# Altium integrated library TI Power Management Power Over Ethernet.IntLib: 76 symbols (part 6 of 9)
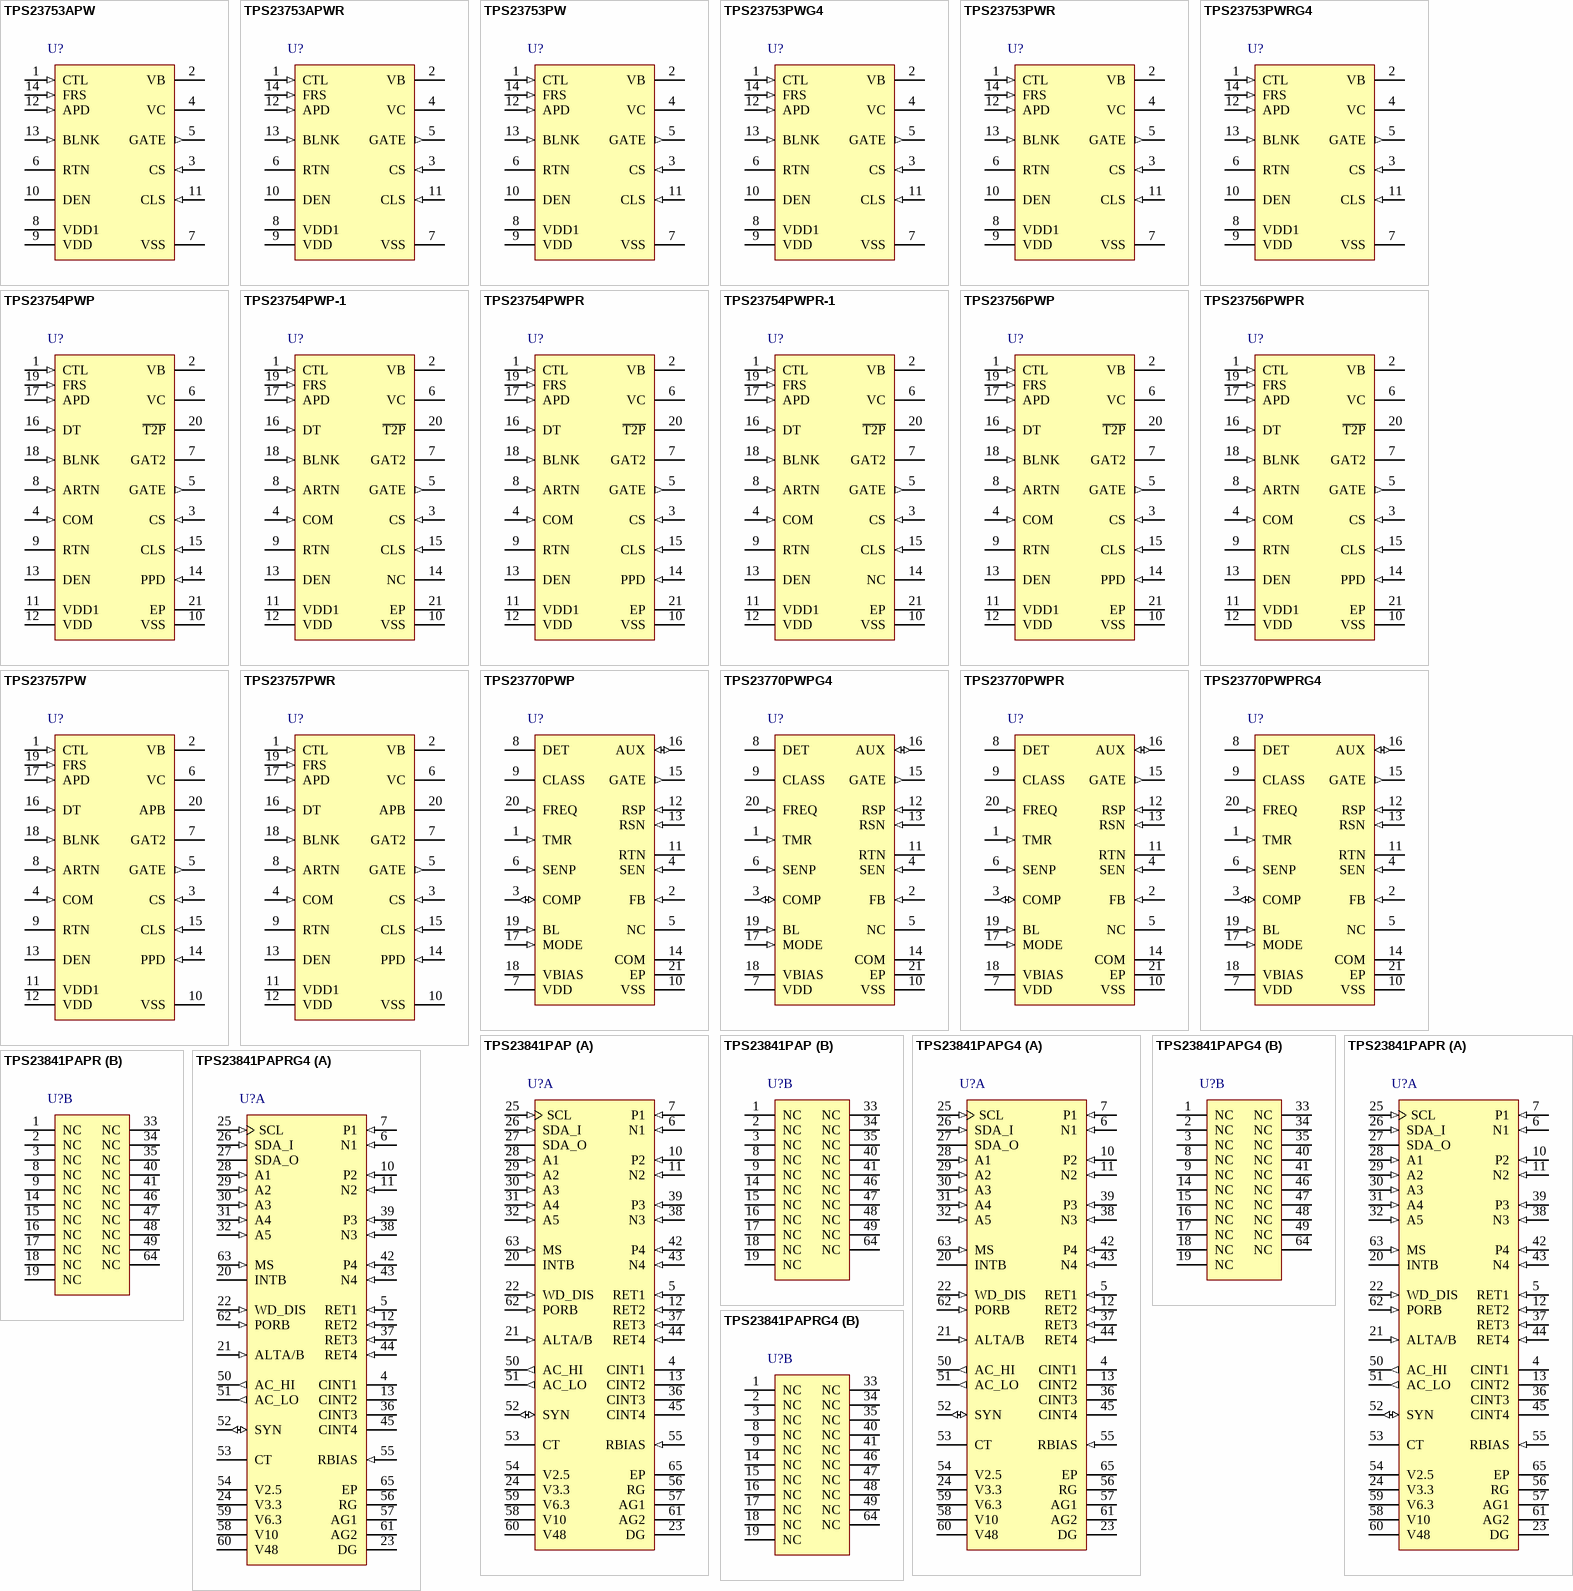
[diagram p8: symbols TPS23753APW to TPS23841PAPRG4]

## TPS23756PWPR
designator U?
High Power / High Efficiency PoE Interface and DC / DC Controller, -40 to 125 degC, 20-pin SOP (PW20), Green (RoHS & no Sb/Br); Manufacturer: Texas Instruments; PartNumber: TPS23756PWPR; Auxiliary Power Rails Supported: 12V-57V; Auxiliary/Local Power Support: Programmable; Driven/Active Clamp (Second Gate Drive): Yes; Duty Cycle(%): 78; Fault Response: Auto Retry; PD Power Level: 25W; PoE Current Limit(Min)(mA): 850; PoE I/F & DC DC Control: TRUE; PoE Inrush Limit(Typ)(mA): 140; PoE Standards Supported: 802.3at type1, 2; rDS(on) per FET(Typ)(mOhms): 430; SubFamily: Powered Device; Switching Frequency: Synchronizable and Programmable; UVLO: Unified; DatasheetVersion: SLVS885F; PackageVersion: 4073225-4/1; PackageReference: PWP20-3610X2009TP; PackageDescription: 20-Pin PowerPAD Plastic Small Outline, Body 6.5 x 4.4 mm,0.65 mm Pitch; Supplier 1: Digi-Key; Supplier Part Number 1: TPS23756PWPR-ND; Supplier 2: Newark; Supplier Part Number 2: 25R0092; Supplier 3: Mouser; Supplier Part Number 3: 595-TPS23756PWPR; Eco-Plan: Green (RoHS & no Sb/Br); Mounting Technology: Surface Mount; Code_JEDEC: MO-153; ComponentLink1Description: Manufacturer URL; ComponentLink1URL: http://www.ti.com/; ComponentLink2Description: Datasheet; ComponentLink2URL: http://www.ti.com/general/docs/lit/getliterature.tsp?genericPartNumber=TPS23756&fileType=pdf; ComponentLink3Description: Package Specification; ComponentLink3URL: http://www.ti.com/litv/pdf/mhts001g
footprint TI-PWP20-3610X2009TP_N (SOP, 20-Leads, Body 6.5x4.4mm, Pitch 0.65mm, Thermal Pad 3.605x2.005mm, IPC Medium Density)
footprint TI-PWP20-3610X2009TP_L (SOP, 20-Leads, Body 6.5x4.4mm, Pitch 0.65mm, Thermal Pad 3.605x2.005mm, IPC High Density)
footprint TI-PWP20-3610X2009TP_M (SOP, 20-Leads, Body 6.5x4.4mm, Pitch 0.65mm, Thermal Pad 3.605x2.005mm, IPC Low Density)
pins: 1 CTL (in) "The control loop input to the PWM (pulse width modulator), typically driven by output regulation feedback (e.g. optocoupler). Use VB as a pullup for CTL.", 2 VB (power) "5.1 V bias rail for dc/dc control circuits and the feedback optocoupler. Typically bypass with a 0.1 uF to ARTN.", 3 CS (in) "DC/DC converter switching MOSFET current sense input.", 4 COM (in) "Gate driver return, connect to ARTN and RTN.", 5 GATE (out) "Gate drive output for the main dc/dc converter switching MOSFET.", 6 VC (power) "DC/DC converter bias voltage. Connect a 0.47 uF (minimum) ceramic capacitor to ARTN at the pin, and a larger capacitor to power startup.", 7 GAT2 (hiz) "Gate drive output for a second dc/dc converter switching MOSFET", 8 ARTN (in) "ARTN is the dc/dc converter analog return. Tie to RTN and COM on the circuit board.", 9 RTN "RTN is the output of the PoE hotswap MOSFET.", 10 VSS (power) "Connect to the negative power rail derived from the PoE source.", 11 VDD1 (power) "Source of dc/dc converter startup current. Connect to VDD for many applications.", 12 VDD (power) "Connect to the positive PoE input power rail. VDD powers the PoE interface circuits. Bypass with a 0.1 uF capacitor and protect with a TVS.", 13 DEN "Connect a 24.9 k ohm resistor from DEN to VDD to provide the PoE detection signature. Pulling this pin to VSS during powered operation causes the internal hotswap MOSFET to turn off.", 14 PPD (in) "Raising VPPD-VSS above 1.55 V enables the hotswap MOSFET and activates T2P. Connecting PPD to VDD enables classification when APD is active. Tie PPD to VSS or float when not used.", 15 CLS (in) "Connect a resistor from CLS to VSS to program classification current. 2.5 V is applied to the program resistor during classification to set class current.", 16 DT (in) "Connect a resistor from DT to ARTN to set the GATE to GAT2 dead time. Tie DT to VB to disable GAT2 operation.", 17 APD (in) "Raising VAPD-VARTN above 1.5 V disables the internal hotswap switch, turns class off, and forces T2P active. This forces power to come from a external VDD1-RTN adapter. Tie APD to ARTN when not used.", 18 BLNK (in) "Connect to ARTN to utilize the internally set current-sense blanking period, or connect a resistor from BLNK to ARTN to program a more accurate period.", 19 FRS (in) "Connect a resistor from FRS to ARTN to program the converter switching frequency. FRS may be used to synchronize the converter to an external timing source.", 20 ~{T2P} (oc) "Active low output that indicates a PSE has performed the IEEE 802.3at type 2 hardware classification, PPD is active, or APD is active.", 21 EP (power) "Connect to VSS."

## TPS23757PW
designator U?
High Efficiency PoE Interface and DC / DC Controller, -40 to 125 degC, 20-pin SOP (PW20), Green (RoHS & no Sb/Br); Manufacturer: Texas Instruments; PartNumber: TPS23757PW; Auxiliary Power Rails Supported: 12V-57V; Auxiliary/Local Power Support: Programmable; Driven/Active Clamp (Second Gate Drive): Yes; Duty Cycle(%): 78; Fault Response: Auto Retry; PD Power Level: 13W; PoE Current Limit(Min)(mA): 400; PoE I/F & DC DC Control: TRUE; PoE Inrush Limit(Typ)(mA): 140; PoE Standards Supported: 802.3at type1; rDS(on) per FET(Typ)(mOhms): 430; SubFamily: Powered Device; Switching Frequency: Synchronizable and Programmable; UVLO: Unified; DatasheetVersion: SLVS948C; PackageVersion: 4040064-5/G; PackageReference: PW20; PackageDescription: 20-Pin Plastic Small Outline, Body 6.5 x 4.4 mm, 0.65 mm Pitch; Supplier 1: Digi-Key; Supplier Part Number 1: 296-24949-5-ND; Supplier 2: Farnell; Supplier Part Number 2: 1762993; Supplier 3: Newark; Supplier Part Number 3: 34R9176; Supplier 4: Newark; Supplier Part Number 4: 25R2325; Supplier 5: Mouser; Supplier Part Number 5: 595-TPS23757PW; Eco-Plan: Green (RoHS & no Sb/Br); Mounting Technology: Surface Mount; Code_JEDEC: MO-153; ComponentLink1Description: Manufacturer URL; ComponentLink1URL: http://www.ti.com/; ComponentLink2Description: Datasheet; ComponentLink2URL: http://www.ti.com/general/docs/lit/getliterature.tsp?genericPartNumber=TPS23757&fileType=pdf; ComponentLink3Description: Package Specification; ComponentLink3URL: http://www.ti.com.cn/cn/lit/ml/mpds362/mpds362.pdf
footprint TI-PW20_N (SOP, 20-Leads, Body 6.5x4.4mm, Pitch 0.65mm, IPC Medium Density)
footprint TI-PW20_L (SOP, 20-Leads, Body 6.5x4.4mm, Pitch 0.65mm, IPC High Density)
footprint TI-PW20_M (SOP, 20-Leads, Body 6.5x4.4mm, Pitch 0.65mm, IPC Low Density)
pins: 1 CTL (in) "The control loop input to the PWM (pulse width modulator), typically driven by output regulation feedback (e.g. optocoupler). Use VB as a pullup for CTL.", 2 VB (power) "5.1 V bias rail for dc/dc control circuits and the feedback optocoupler. Typically bypass with a 0.1 uF to ARTN.", 3 CS (in) "DC/DC converter switching MOSFET current sense input.", 4 COM (in) "Gate driver return, connect to ARTN, and RTN for most applications.", 5 GATE (out) "Gate drive output for the main dc/dc converter switching MOSFET.", 6 VC (power) "DC/DC converter bias voltage. Connect a 0.47 uF (minimum) ceramic capacitor to ARTN at the pin, and a larger capacitor to power startup.", 7 GAT2 (hiz) "Gate drive output for a second dc/dc converter switching MOSFET.", 8 ARTN (in) "ARTN is the dc/dc converter analog return. Tie to COM, and RTN for most applications.", 9 RTN "RTN is the output of the PoE hotswap MOSFET.", 10 VSS (power) "Connect to the negative power rail derived from the PoE source.", 11 VDD1 (power) "Source of dc/dc converter startup current. Connect to VDD for many applications.", 12 VDD (power) "Connect to the positive PoE input power rail. VDD powers the PoE interface circuits. Bypass with a 0.1 uF Connect to the positive PoE input power rail. VDD powers the PoE interface circuits. Bypass with a 0.1 µF capacitor (See Datasheet)", 13 DEN "Connect a 24.9 k ohm resistor from DEN to VDD to provide the PoE detection signature. Pulling this pin to VSS Connect a 24.9 k ohm resistor from DEN to VDD to provide the PoE detection signature. Pulling this pin to VSS (See Datasheet)", 14 PPD (in) "Raising VPPD - VVSS above 1.55 V enables the hotswap MOSFET and activates APb. Connecting PPD to VDD enables classification when APD is active. Tie PPD to VSS or float when not used.", 15 CLS (in) "Connect a resistor from CLS to VSS to program classification current per Table 1.", 16 DT (in) "Connect a resistor from DT to ARTN to set the GATE to GAT2 dead time. Tie DT to VB to disable GAT2 operation.", 17 APD (in) "Raising VAPD-VARTN above 1.5 V disables the internal hotswap MOSFET, turns class off, and forces APb active. This forces power to come from a external VDD1-VRTN adapter. Tie APD to ARTN when not used.", 18 BLNK (in) "Connect to ARTN to utilize the internally set current-sense blanking period, or connect a resistor from BLNK to ARTN to program a more accurate period.", 19 FRS (in) "Connect a resistor from FRS to ARTN to program the converter switching frequency. FRS may be used to synchronize the converter to an external timing source.", 20 APB (oc) "Active low output that indicates PPD (first level) or APD are active."

## TPS23757PWR
designator U?
High Efficiency PoE Interface and DC / DC Controller, -40 to 125 degC, 20-pin SOP (PW20), Green (RoHS & no Sb/Br); Manufacturer: Texas Instruments; PartNumber: TPS23757PWR; Auxiliary Power Rails Supported: 12V-57V; Auxiliary/Local Power Support: Programmable; Driven/Active Clamp (Second Gate Drive): Yes; Duty Cycle(%): 78; Fault Response: Auto Retry; PD Power Level: 13W; PoE Current Limit(Min)(mA): 400; PoE I/F & DC DC Control: TRUE; PoE Inrush Limit(Typ)(mA): 140; PoE Standards Supported: 802.3at type1; rDS(on) per FET(Typ)(mOhms): 430; SubFamily: Powered Device; Switching Frequency: Synchronizable and Programmable; UVLO: Unified; DatasheetVersion: SLVS948C; PackageVersion: 4040064-5/G; PackageReference: PW20; PackageDescription: 20-Pin Plastic Small Outline, Body 6.5 x 4.4 mm, 0.65 mm Pitch; Supplier 1: Digi-Key; Supplier Part Number 1: TPS23757PWR-ND; Supplier 2: Newark; Supplier Part Number 2: 50R8106; Supplier 3: Mouser; Supplier Part Number 3: 595-TPS23757PWR; Eco-Plan: Green (RoHS & no Sb/Br); Mounting Technology: Surface Mount; Code_JEDEC: MO-153; ComponentLink1Description: Manufacturer URL; ComponentLink1URL: http://www.ti.com/; ComponentLink2Description: Datasheet; ComponentLink2URL: http://www.ti.com/general/docs/lit/getliterature.tsp?genericPartNumber=TPS23757&fileType=pdf; ComponentLink3Description: Package Specification; ComponentLink3URL: http://www.ti.com.cn/cn/lit/ml/mpds362/mpds362.pdf
footprint TI-PW20_N (SOP, 20-Leads, Body 6.5x4.4mm, Pitch 0.65mm, IPC Medium Density)
footprint TI-PW20_L (SOP, 20-Leads, Body 6.5x4.4mm, Pitch 0.65mm, IPC High Density)
footprint TI-PW20_M (SOP, 20-Leads, Body 6.5x4.4mm, Pitch 0.65mm, IPC Low Density)
pins: 1 CTL (in) "The control loop input to the PWM (pulse width modulator), typically driven by output regulation feedback (e.g. optocoupler). Use VB as a pullup for CTL.", 2 VB (power) "5.1 V bias rail for dc/dc control circuits and the feedback optocoupler. Typically bypass with a 0.1 uF to ARTN.", 3 CS (in) "DC/DC converter switching MOSFET current sense input.", 4 COM (in) "Gate driver return, connect to ARTN, and RTN for most applications.", 5 GATE (out) "Gate drive output for the main dc/dc converter switching MOSFET.", 6 VC (power) "DC/DC converter bias voltage. Connect a 0.47 uF (minimum) ceramic capacitor to ARTN at the pin, and a larger capacitor to power startup.", 7 GAT2 (hiz) "Gate drive output for a second dc/dc converter switching MOSFET.", 8 ARTN (in) "ARTN is the dc/dc converter analog return. Tie to COM, and RTN for most applications.", 9 RTN "RTN is the output of the PoE hotswap MOSFET.", 10 VSS (power) "Connect to the negative power rail derived from the PoE source.", 11 VDD1 (power) "Source of dc/dc converter startup current. Connect to VDD for many applications.", 12 VDD (power) "Connect to the positive PoE input power rail. VDD powers the PoE interface circuits. Bypass with a 0.1 uF Connect to the positive PoE input power rail. VDD powers the PoE interface circuits. Bypass with a 0.1 µF capacitor (See Datasheet)", 13 DEN "Connect a 24.9 k ohm resistor from DEN to VDD to provide the PoE detection signature. Pulling this pin to VSS Connect a 24.9 k ohm resistor from DEN to VDD to provide the PoE detection signature. Pulling this pin to VSS (See Datasheet)", 14 PPD (in) "Raising VPPD - VVSS above 1.55 V enables the hotswap MOSFET and activates APb. Connecting PPD to VDD enables classification when APD is active. Tie PPD to VSS or float when not used.", 15 CLS (in) "Connect a resistor from CLS to VSS to program classification current per Table 1.", 16 DT (in) "Connect a resistor from DT to ARTN to set the GATE to GAT2 dead time. Tie DT to VB to disable GAT2 operation.", 17 APD (in) "Raising VAPD-VARTN above 1.5 V disables the internal hotswap MOSFET, turns class off, and forces APb active. This forces power to come from a external VDD1-VRTN adapter. Tie APD to ARTN when not used.", 18 BLNK (in) "Connect to ARTN to utilize the internally set current-sense blanking period, or connect a resistor from BLNK to ARTN to program a more accurate period.", 19 FRS (in) "Connect a resistor from FRS to ARTN to program the converter switching frequency. FRS may be used to synchronize the converter to an external timing source.", 20 APB (oc) "Active low output that indicates PPD (first level) or APD are active."

## TPS23770PWP
designator U?
IEEE 802.3af PD Controller with Integrated DC / DC, -40 to 85 degC, 20-pin SOP (PWP20), Green (RoHS & no Sb/Br); Manufacturer: Texas Instruments; PartNumber: TPS23770PWP; Auxiliary Power Rails Supported: 24V-57V; Auxiliary/Local Power Support: External Circuit; Duty Cycle(%): 50; Error Amplifier: Yes; Fault Response: Auto Retry; PD Power Level: 13W; PoE Current Limit(Min)(mA): 405; PoE I/F & DC DC Control: TRUE; PoE Inrush Limit(Typ)(mA): 140; PoE Standards Supported: 802.3at type1; rDS(on) per FET(Typ)(mOhms): 600; SubFamily: Powered Device; Switching Frequency: Programmable; UVLO: Unified; DatasheetVersion: SLVS590B; PackageVersion: 4073225-4/1; PackageReference: PWP20-3610X2009TP; PackageDescription: 20-Pin PowerPAD Plastic Small Outline, Body 6.5 x 4.4 mm,0.65 mm Pitch; Supplier 1: Digi-Key; Supplier Part Number 1: TPS23770PWP-ND; Supplier 2: Farnell; Supplier Part Number 2: 1645406; Supplier 3: Newark; Supplier Part Number 3: 09P7130; Supplier 4: Newark; Supplier Part Number 4: 58K6910; Supplier 5: Mouser; Supplier Part Number 5: 595-TPS23770PWP; Eco-Plan: Green (RoHS & no Sb/Br); Mounting Technology: Surface Mount; Code_JEDEC: MO-153; ComponentLink1Description: Manufacturer URL; ComponentLink1URL: http://www.ti.com/; ComponentLink2Description: Datasheet; ComponentLink2URL: http://www.ti.com/general/docs/lit/getliterature.tsp?genericPartNumber=TPS23770&fileType=pdf; ComponentLink3Description: Package Specification; ComponentLink3URL: http://www.ti.com/litv/pdf/mhts001g
footprint TI-PWP20-3610X2009TP_N (SOP, 20-Leads, Body 6.5x4.4mm, Pitch 0.65mm, Thermal Pad 3.605x2.005mm, IPC Medium Density)
footprint TI-PWP20-3610X2009TP_L (SOP, 20-Leads, Body 6.5x4.4mm, Pitch 0.65mm, Thermal Pad 3.605x2.005mm, IPC High Density)
footprint TI-PWP20-3610X2009TP_M (SOP, 20-Leads, Body 6.5x4.4mm, Pitch 0.65mm, Thermal Pad 3.605x2.005mm, IPC Low Density)
pins: 1 TMR (in) "Multifunction pin, serves as a converter soft start and a hiccup timer. A capacitor to RTN determines the softstart and hiccup timing.", 2 FB (in) "Converter error amplifier inverting input. Tie to RTN when not used.", 3 COMP (io) "Converter error amplifier output and PWM block input. COMP is used for loop compensation or PWM control with an external error amplifier and opto-isolator.", 4 SEN (in) "Voltage-level translator's sense input and enable; connect to RTN to disable. SEN is regulated to 1.5 V below SENP by the control loop when the translator is used. Typically used in a low-side switch buck converter.", 5 NC "No connect. There are no internal connections.", 6 SENP (in) "Voltage-level translator's positive reference voltage (sense positive) used in conjunction with SEN. Tie to the regulated voltage positive rail when the translator is used, and VDD otherwise.", 7 VDD (power) "Positive supply input.", 8 DET "PoE detection pin; a 24.9 k ohm resistor to VDD establishes a valid signature. It is pulled to VSS during detection.", 9 CLASS "Classification pin for PoE. A resistor to VSS sets the PoE device class. This pin is driven to 10 V during classification.", 10 VSS (power) "Negative supply input from the PoE feed (after required ORing bridges).", 11 RTN "The switched PoE negative output. RTN is the converter’s negative input rail. COM and RSN should be tied to RTN.", 12 RSP (in) "Connect to the converter switching MOSFET current-sense resistor (current Sense Resistor Positive end).", 13 RSN (in) "Converter switching MOSFET current-sense reference (current Sense Resistor Negative end) and quiet analog return (ground). Connect to RTN.", 14 COM (power) "Converter MOSFET gate driver circuit return. Connect to RTN.", 15 GATE (out) "Converter switching MOSFET gate drive.", 16 AUX (io) "Converter gate driver supply; outputs 10 V and can accept inputs up to 16 V. Connect a bypass capacitor to COM.", 17 MODE (in) "Connect to VBIAS to disable the error amplifier, otherwise to RTN.", 18 VBIAS (power) "Converter internal 5 V bias supply output, also used to bias external optocoupler. A bypass capacitor to RTN is required.", 19 BL (in) "Converter current sense blanking selector. Leave floating for minimum blanking, tie BL to RTN for a short period, and to VBIAS for a long period.", 20 FREQ (in) "Connect a resistor to RTN to program the switching frequency.", 21 EP (power) "Internally connected to VSS; used to heatsink the part to the circuit board traces. Must be connected to the VSS pin."

## TPS23770PWPG4
designator U?
IEEE 802.3af PD Controller with Integrated DC / DC, -40 to 85 degC, 20-pin SOP (PWP20), Green (RoHS & no Sb/Br); Manufacturer: Texas Instruments; PartNumber: TPS23770PWPG4; Auxiliary Power Rails Supported: 24V-57V; Auxiliary/Local Power Support: External Circuit; Duty Cycle(%): 50; Error Amplifier: Yes; Fault Response: Auto Retry; PD Power Level: 13W; PoE Current Limit(Min)(mA): 405; PoE I/F & DC DC Control: TRUE; PoE Inrush Limit(Typ)(mA): 140; PoE Standards Supported: 802.3at type1; rDS(on) per FET(Typ)(mOhms): 600; SubFamily: Powered Device; Switching Frequency: Programmable; UVLO: Unified; DatasheetVersion: SLVS590B; PackageVersion: 4073225-4/1; PackageReference: PWP20-3610X2009TP; PackageDescription: 20-Pin PowerPAD Plastic Small Outline, Body 6.5 x 4.4 mm,0.65 mm Pitch; Supplier 1: Digi-Key; Supplier Part Number 1: TPS23770PWPG4-ND; Supplier 2: Mouser; Supplier Part Number 2: 595-TPS23770PWPG4; Eco-Plan: Green (RoHS & no Sb/Br); Mounting Technology: Surface Mount; Code_JEDEC: MO-153; ComponentLink1Description: Manufacturer URL; ComponentLink1URL: http://www.ti.com/; ComponentLink2Description: Datasheet; ComponentLink2URL: http://www.ti.com/general/docs/lit/getliterature.tsp?genericPartNumber=TPS23770&fileType=pdf; ComponentLink3Description: Package Specification; ComponentLink3URL: http://www.ti.com/litv/pdf/mhts001g
footprint TI-PWP20-3610X2009TP_N (SOP, 20-Leads, Body 6.5x4.4mm, Pitch 0.65mm, Thermal Pad 3.605x2.005mm, IPC Medium Density)
footprint TI-PWP20-3610X2009TP_L (SOP, 20-Leads, Body 6.5x4.4mm, Pitch 0.65mm, Thermal Pad 3.605x2.005mm, IPC High Density)
footprint TI-PWP20-3610X2009TP_M (SOP, 20-Leads, Body 6.5x4.4mm, Pitch 0.65mm, Thermal Pad 3.605x2.005mm, IPC Low Density)
pins: 1 TMR (in) "Multifunction pin, serves as a converter soft start and a hiccup timer. A capacitor to RTN determines the softstart and hiccup timing.", 2 FB (in) "Converter error amplifier inverting input. Tie to RTN when not used.", 3 COMP (io) "Converter error amplifier output and PWM block input. COMP is used for loop compensation or PWM control with an external error amplifier and opto-isolator.", 4 SEN (in) "Voltage-level translator's sense input and enable; connect to RTN to disable. SEN is regulated to 1.5 V below SENP by the control loop when the translator is used. Typically used in a low-side switch buck converter.", 5 NC "No connect. There are no internal connections.", 6 SENP (in) "Voltage-level translator's positive reference voltage (sense positive) used in conjunction with SEN. Tie to the regulated voltage positive rail when the translator is used, and VDD otherwise.", 7 VDD (power) "Positive supply input.", 8 DET "PoE detection pin; a 24.9 k ohm resistor to VDD establishes a valid signature. It is pulled to VSS during detection.", 9 CLASS "Classification pin for PoE. A resistor to VSS sets the PoE device class. This pin is driven to 10 V during classification.", 10 VSS (power) "Negative supply input from the PoE feed (after required ORing bridges).", 11 RTN "The switched PoE negative output. RTN is the converter’s negative input rail. COM and RSN should be tied to RTN.", 12 RSP (in) "Connect to the converter switching MOSFET current-sense resistor (current Sense Resistor Positive end).", 13 RSN (in) "Converter switching MOSFET current-sense reference (current Sense Resistor Negative end) and quiet analog return (ground). Connect to RTN.", 14 COM (power) "Converter MOSFET gate driver circuit return. Connect to RTN.", 15 GATE (out) "Converter switching MOSFET gate drive.", 16 AUX (io) "Converter gate driver supply; outputs 10 V and can accept inputs up to 16 V. Connect a bypass capacitor to COM.", 17 MODE (in) "Connect to VBIAS to disable the error amplifier, otherwise to RTN.", 18 VBIAS (power) "Converter internal 5 V bias supply output, also used to bias external optocoupler. A bypass capacitor to RTN is required.", 19 BL (in) "Converter current sense blanking selector. Leave floating for minimum blanking, tie BL to RTN for a short period, and to VBIAS for a long period.", 20 FREQ (in) "Connect a resistor to RTN to program the switching frequency.", 21 EP (power) "Internally connected to VSS; used to heatsink the part to the circuit board traces. Must be connected to the VSS pin."

## TPS23770PWPR
designator U?
IEEE 802.3af PD Controller with Integrated DC / DC, -40 to 85 degC, 20-pin SOP (PWP20), Green (RoHS & no Sb/Br); Manufacturer: Texas Instruments; PartNumber: TPS23770PWPR; Auxiliary Power Rails Supported: 24V-57V; Auxiliary/Local Power Support: External Circuit; Duty Cycle(%): 50; Error Amplifier: Yes; Fault Response: Auto Retry; PD Power Level: 13W; PoE Current Limit(Min)(mA): 405; PoE I/F & DC DC Control: TRUE; PoE Inrush Limit(Typ)(mA): 140; PoE Standards Supported: 802.3at type1; rDS(on) per FET(Typ)(mOhms): 600; SubFamily: Powered Device; Switching Frequency: Programmable; UVLO: Unified; DatasheetVersion: SLVS590B; PackageVersion: 4073225-4/1; PackageReference: PWP20-3610X2009TP; PackageDescription: 20-Pin PowerPAD Plastic Small Outline, Body 6.5 x 4.4 mm,0.65 mm Pitch; Supplier 1: Digi-Key; Supplier Part Number 1: 296-21148-2-ND; Supplier 2: Digi-Key; Supplier Part Number 2: 296-21148-1-ND; Supplier 3: Digi-Key; Supplier Part Number 3: 296-21148-6-ND; Supplier 4: Mouser; Supplier Part Number 4: 595-TPS23770PWPR; Eco-Plan: Green (RoHS & no Sb/Br); Mounting Technology: Surface Mount; Code_JEDEC: MO-153; ComponentLink1Description: Manufacturer URL; ComponentLink1URL: http://www.ti.com/; ComponentLink2Description: Datasheet; ComponentLink2URL: http://www.ti.com/general/docs/lit/getliterature.tsp?genericPartNumber=TPS23770&fileType=pdf; ComponentLink3Description: Package Specification; ComponentLink3URL: http://www.ti.com/litv/pdf/mhts001g
footprint TI-PWP20-3610X2009TP_N (SOP, 20-Leads, Body 6.5x4.4mm, Pitch 0.65mm, Thermal Pad 3.605x2.005mm, IPC Medium Density)
footprint TI-PWP20-3610X2009TP_L (SOP, 20-Leads, Body 6.5x4.4mm, Pitch 0.65mm, Thermal Pad 3.605x2.005mm, IPC High Density)
footprint TI-PWP20-3610X2009TP_M (SOP, 20-Leads, Body 6.5x4.4mm, Pitch 0.65mm, Thermal Pad 3.605x2.005mm, IPC Low Density)
pins: 1 TMR (in) "Multifunction pin, serves as a converter soft start and a hiccup timer. A capacitor to RTN determines the softstart and hiccup timing.", 2 FB (in) "Converter error amplifier inverting input. Tie to RTN when not used.", 3 COMP (io) "Converter error amplifier output and PWM block input. COMP is used for loop compensation or PWM control with an external error amplifier and opto-isolator.", 4 SEN (in) "Voltage-level translator's sense input and enable; connect to RTN to disable. SEN is regulated to 1.5 V below SENP by the control loop when the translator is used. Typically used in a low-side switch buck converter.", 5 NC "No connect. There are no internal connections.", 6 SENP (in) "Voltage-level translator's positive reference voltage (sense positive) used in conjunction with SEN. Tie to the regulated voltage positive rail when the translator is used, and VDD otherwise.", 7 VDD (power) "Positive supply input.", 8 DET "PoE detection pin; a 24.9 k ohm resistor to VDD establishes a valid signature. It is pulled to VSS during detection.", 9 CLASS "Classification pin for PoE. A resistor to VSS sets the PoE device class. This pin is driven to 10 V during classification.", 10 VSS (power) "Negative supply input from the PoE feed (after required ORing bridges).", 11 RTN "The switched PoE negative output. RTN is the converter’s negative input rail. COM and RSN should be tied to RTN.", 12 RSP (in) "Connect to the converter switching MOSFET current-sense resistor (current Sense Resistor Positive end).", 13 RSN (in) "Converter switching MOSFET current-sense reference (current Sense Resistor Negative end) and quiet analog return (ground). Connect to RTN.", 14 COM (power) "Converter MOSFET gate driver circuit return. Connect to RTN.", 15 GATE (out) "Converter switching MOSFET gate drive.", 16 AUX (io) "Converter gate driver supply; outputs 10 V and can accept inputs up to 16 V. Connect a bypass capacitor to COM.", 17 MODE (in) "Connect to VBIAS to disable the error amplifier, otherwise to RTN.", 18 VBIAS (power) "Converter internal 5 V bias supply output, also used to bias external optocoupler. A bypass capacitor to RTN is required.", 19 BL (in) "Converter current sense blanking selector. Leave floating for minimum blanking, tie BL to RTN for a short period, and to VBIAS for a long period.", 20 FREQ (in) "Connect a resistor to RTN to program the switching frequency.", 21 EP (power) "Internally connected to VSS; used to heatsink the part to the circuit board traces. Must be connected to the VSS pin."

## TPS23770PWPRG4
designator U?
IEEE 802.3af PD Controller with Integrated DC / DC, -40 to 85 degC, 20-pin SOP (PWP20), Green (RoHS & no Sb/Br); Manufacturer: Texas Instruments; PartNumber: TPS23770PWPRG4; Auxiliary Power Rails Supported: 24V-57V; Auxiliary/Local Power Support: External Circuit; Duty Cycle(%): 50; Error Amplifier: Yes; Fault Response: Auto Retry; PD Power Level: 13W; PoE Current Limit(Min)(mA): 405; PoE I/F & DC DC Control: TRUE; PoE Inrush Limit(Typ)(mA): 140; PoE Standards Supported: 802.3at type1; rDS(on) per FET(Typ)(mOhms): 600; SubFamily: Powered Device; Switching Frequency: Programmable; UVLO: Unified; DatasheetVersion: SLVS590B; PackageVersion: 4073225-4/1; PackageReference: PWP20-3610X2009TP; PackageDescription: 20-Pin PowerPAD Plastic Small Outline, Body 6.5 x 4.4 mm,0.65 mm Pitch; Supplier 1: Digi-Key; Supplier Part Number 1: TPS23770PWPRG4-ND; Supplier 2: Newark; Supplier Part Number 2: 61K1882; Supplier 3: Mouser; Supplier Part Number 3: 595-TPS23770PWPRG4; Eco-Plan: Green (RoHS & no Sb/Br); Mounting Technology: Surface Mount; Code_JEDEC: MO-153; ComponentLink1Description: Manufacturer URL; ComponentLink1URL: http://www.ti.com/; ComponentLink2Description: Datasheet; ComponentLink2URL: http://www.ti.com/general/docs/lit/getliterature.tsp?genericPartNumber=TPS23770&fileType=pdf; ComponentLink3Description: Package Specification; ComponentLink3URL: http://www.ti.com/litv/pdf/mhts001g
footprint TI-PWP20-3610X2009TP_N (SOP, 20-Leads, Body 6.5x4.4mm, Pitch 0.65mm, Thermal Pad 3.605x2.005mm, IPC Medium Density)
footprint TI-PWP20-3610X2009TP_L (SOP, 20-Leads, Body 6.5x4.4mm, Pitch 0.65mm, Thermal Pad 3.605x2.005mm, IPC High Density)
footprint TI-PWP20-3610X2009TP_M (SOP, 20-Leads, Body 6.5x4.4mm, Pitch 0.65mm, Thermal Pad 3.605x2.005mm, IPC Low Density)
pins: 1 TMR (in) "Multifunction pin, serves as a converter soft start and a hiccup timer. A capacitor to RTN determines the softstart and hiccup timing.", 2 FB (in) "Converter error amplifier inverting input. Tie to RTN when not used.", 3 COMP (io) "Converter error amplifier output and PWM block input. COMP is used for loop compensation or PWM control with an external error amplifier and opto-isolator.", 4 SEN (in) "Voltage-level translator's sense input and enable; connect to RTN to disable. SEN is regulated to 1.5 V below SENP by the control loop when the translator is used. Typically used in a low-side switch buck converter.", 5 NC "No connect. There are no internal connections.", 6 SENP (in) "Voltage-level translator's positive reference voltage (sense positive) used in conjunction with SEN. Tie to the regulated voltage positive rail when the translator is used, and VDD otherwise.", 7 VDD (power) "Positive supply input.", 8 DET "PoE detection pin; a 24.9 k ohm resistor to VDD establishes a valid signature. It is pulled to VSS during detection.", 9 CLASS "Classification pin for PoE. A resistor to VSS sets the PoE device class. This pin is driven to 10 V during classification.", 10 VSS (power) "Negative supply input from the PoE feed (after required ORing bridges).", 11 RTN "The switched PoE negative output. RTN is the converter’s negative input rail. COM and RSN should be tied to RTN.", 12 RSP (in) "Connect to the converter switching MOSFET current-sense resistor (current Sense Resistor Positive end).", 13 RSN (in) "Converter switching MOSFET current-sense reference (current Sense Resistor Negative end) and quiet analog return (ground). Connect to RTN.", 14 COM (power) "Converter MOSFET gate driver circuit return. Connect to RTN.", 15 GATE (out) "Converter switching MOSFET gate drive.", 16 AUX (io) "Converter gate driver supply; outputs 10 V and can accept inputs up to 16 V. Connect a bypass capacitor to COM.", 17 MODE (in) "Connect to VBIAS to disable the error amplifier, otherwise to RTN.", 18 VBIAS (power) "Converter internal 5 V bias supply output, also used to bias external optocoupler. A bypass capacitor to RTN is required.", 19 BL (in) "Converter current sense blanking selector. Leave floating for minimum blanking, tie BL to RTN for a short period, and to VBIAS for a long period.", 20 FREQ (in) "Connect a resistor to RTN to program the switching frequency.", 21 EP (power) "Internally connected to VSS; used to heatsink the part to the circuit board traces. Must be connected to the VSS pin."

## TPS23841PAP
designator U?
High Power Wide Voltage Range Quad Port Ethernet Power Sourcing Equipment Manager, -40 to 125 degC, 64-pin QFP (PAP64), Green (RoHS & no Sb/Br); Manufacturer: Texas Instruments; PartNumber: TPS23841PAP; Adjustable Current Limit(Min)(A): 0.571; Integrated FET: TRUE; No. of Outputs: 4; rDS(on) per FET(Typ)(mOhms): 1300; Vin(Max)(V): 57; Vin(Min)(V): 34; DatasheetVersion: SLUS745A; PackageVersion: 4147702/C; PackageReference: PAP64-5900X5900TP; PackageDescription: 48-Pin PowerPad™ Plastic Quad FlatPack, Body 10 x 10 mm, Pitch 0.5 mm; Supplier 1: Digi-Key; Supplier Part Number 1: TPS23841PAP-ND; Supplier 2: Farnell; Supplier Part Number 2: 1755553; Supplier 3: Newark; Supplier Part Number 3: 99R2047; Supplier 4: Newark; Supplier Part Number 4: 27M1074; Supplier 5: Mouser; Supplier Part Number 5: 595-TPS23841PAP; Eco-Plan: Green (RoHS & no Sb/Br); Over Current Reporting: TRUE; Over Temp Reporting: TRUE; SubFamily: Power Sourcing Equipment; Mounting Technology: Surface Mount; Code_JEDEC: MS-026; ComponentLink1Description: Manufacturer URL; ComponentLink1URL: http://www.ti.com/; ComponentLink2Description: Datasheet; ComponentLink2URL: http://www.ti.com/general/docs/lit/getliterature.tsp?genericPartNumber=TPS23841&fileType=pdf; ComponentLink3Description: Package Specification; ComponentLink3URL: http://www.ti.com/lit/ml/mpqf071b/mpqf071b.pdf
footprint TI-PAP64-5900X5900TP_N (QFP, 64-Leads, Body 10x10mm, Pitch 0.5mm, Thermal Pad 5.9x5.9mm, IPC Medium Density)
footprint TI-PAP64-5900X5900TP_L (QFP, 64-Leads, Body 10x10mm, Pitch 0.5mm, Thermal Pad 5.9x5.9mm, IPC High Density)
footprint TI-PAP64-5900X5900TP_M (QFP, 64-Leads, Body 10x10mm, Pitch 0.5mm, Thermal Pad 5.9x5.9mm, IPC Low Density)
part A pins: 4 CINT1 "Integration capacitor. This capacitor is used for the ramp A/D converter signal integration. Connect A 0.027- uF capacitor from this pin to RG. To minimize errors use a polycarbonate, poly-polypropylene,polystyrene or teflon (See Datasheet)", 5 RET1 (in) "48 V return pin", 6 N1 (in) "Port negative. 48-V load return pin. The low side of the load is switched and protected by internal circuitry that will limit the current.", 7 P1 (in) "Port Positive. 48-V load sense pin. Terminal voltage is monitored and controlled differentially with respect to each Port N pin Optionally, if the application warrants, this high side path can be protected with the use of a (See Datasheet)", 10 P2 (in) "Port Positive. 48-V load sense pin. Terminal voltage is monitored and controlled differentially with respect to each Port N pin Optionally, if the application warrants, this high side path can be protected with the use of a (See Datasheet)", 11 N2 (in) "Port negative. 48-V load return pin. The low side of the load is switched and protected by internal circuitry that will limit the current.", 12 RET2 (in) "48 V return pin", 13 CINT2 "Integration capacitor. This capacitor is used for the ramp A/D converter signal integration. Connect A 0.027- uF capacitor from this pin to RG. To minimize errors use a polycarbonate, poly-polypropylene,polystyrene or teflon (See Datasheet)", 20 INTB (oc) "This is an open-drain output that goes low if a fault condition occurs on any of the 4 ports.", 21 ALTA/B (in) "When this input is set to logic low there is no back-off time after a discovery failure. When this pin set to a logic high there is a back-off time (approximately 2 seconds) before initiating another discovery cycle. This (See Datasheet)", 22 WD_DIS (in) "The WD_DIS pin disables the watchdog timer function when connected to 3.3 V. The pin has internal 50-k. resistor to digital ground. The watchdog timer monitors the I2C clock pin (SCL) and the internal oscillator activity in (See Datasheet)", 23 DG (power) "Digital ground. This pin connects to the internal logic ground bus. It should be externally tied to the common copper 48-V return plane.", 24 V3.3 (power) "3.3-V logic supply. The 3.3-V supply is generated internally and connects to the internal logic power bus. A 0.1-uiF de-coupling capacitor should terminate as close to this node and the DG pin as possible. This output can be (See Datasheet)", 25 SCL (in) "Serial clock input pin for the I2C interface.", 26 SDA_I (in) "Serial data input pin for the I2C interface. When tied to the SDA_O pin, this connection becomes the standard bi-directional serial data line (SDA)", 27 SDA_O (oc) "Serial data open drain output for the I2C interface. When tied to the SDA_I pin, this connection becomes the standard bi-directional serial data line (SDA). This is a open drain output that can directly drive opto-coupler.", 28 A1 (in) "Address 1 through 5 These are the I2C address select inputs. Select the appropriate binary address on these pins by connecting to the chip ground for a logic low or tying to the V3.3 pin for a logic high. Each address line (See Datasheet)", 29 A2 (in) "Address 1 through 5 These are the I2C address select inputs. Select the appropriate binary address on these pins by connecting to the chip ground for a logic low or tying to the V3.3 pin for a logic high. Each address line (See Datasheet)", 30 A3 (in) "Address 1 through 5 These are the I2C address select inputs. Select the appropriate binary address on these pins by connecting to the chip ground for a logic low or tying to the V3.3 pin for a logic high. Each address line (See Datasheet)", 31 A4 (in) "Address 1 through 5 These are the I2C address select inputs. Select the appropriate binary address on these pins by connecting to the chip ground for a logic low or tying to the V3.3 pin for a logic high. Each address line (See Datasheet)", 32 A5 (in) "Address 1 through 5 These are the I2C address select inputs. Select the appropriate binary address on these pins by connecting to the chip ground for a logic low or tying to the V3.3 pin for a logic high. Each address line (See Datasheet)", 36 CINT3 "Integration capacitor. This capacitor is used for the ramp A/D converter signal integration. Connect A 0.027- uF capacitor from this pin to RG. To minimize errors use a polycarbonate, poly-polypropylene,polystyrene or teflon (See Datasheet)", 37 RET3 (in) "48 V return pin", 38 N3 (in) "Port negative. 48-V load return pin. The low side of the load is switched and protected by internal circuitry that will limit the current.", 39 P3 (in) "Port Positive. 48-V load sense pin. Terminal voltage is monitored and controlled differentially with respect to each Port N pin Optionally, if the application warrants, this high side path can be protected with the use of a (See Datasheet)", 42 P4 (in) "Port Positive. 48-V load sense pin. Terminal voltage is monitored and controlled differentially with respect to each Port N pin Optionally, if the application warrants, this high side path can be protected with the use of a (See Datasheet)", 43 N4 (in) "Port negative. 48-V load return pin. The low side of the load is switched and protected by internal circuitry that will limit the current.", 44 RET4 (in) "48 V return pin", 45 CINT4 "Integration capacitor. This capacitor is used for the ramp A/D converter signal integration. Connect A 0.027- uF capacitor from this pin to RG. To minimize errors use a polycarbonate, poly-polypropylene,polystyrene or teflon (See Datasheet)", 50 AC_HI (out) "Totem-pole output pin for AC Disconnect excitation.", 51 AC_LO (out) "Totem-pole output pin for AC Disconnect excitation.", 52 SYN (io) "This is a dual purpose pin. When the CT pin is connected to a timing capacitor this output pin is a 0v to 3.3V pulse of the internal clock which can be used to drive other TPS23841 SYN pins for elimination of a timing (See Datasheet)", 53 CT "This is a dual-purpose pin. When tied to an external capacitor this pin sets the internal clock. When the CT pin is grounded the SYN pin turns from a output to an input (see SYN pin description) The timing capacitor and the (See Datasheet)", 54 V2.5 (power) "2.5-V reference supply. The V2.5 is generated internally and connects to the internal reference power bus. This pin should not be tied to any external supplies. A 0.1-uF de-coupling capacitor should terminate as close to (See Datasheet)", 55 RBIAS (in) "Bias set resistor. This resistor sets all precision bias currents within the chip. This pin will regulate to 1.25V (V2.5/2) when a resistor is connected between RBIAS and RG. This voltage and RBIAS generate a current which (See Datasheet)", 56 RG (power) "Reference ground. This is a precision sense of the external ground plane. The integration capacitor (CINT) and the biasing resistor (RBIAS pin) should be tied to this ground. This ground should also be used to form a printed (See Datasheet)", 57 AG1 (power) "Analog ground 1. This is the analog ground of the V6.3, V10 and V48 power systems. It should be externally tied to the common copper 48-V return plane. This pin should carry the low side of three e-coupling capacitors tied (See Datasheet)", 58 V10 (power) "10-V analog supply. The 10-V reference is generated internally and connects to the main internal analog power bus. A 0.1-uF de-coupling capacitor should terminate as close to this node and the G1 pin as possible. Do not use (See Datasheet)", 59 V6.3 (power) "6.3-V analog supply. A 0.1-uF de-coupling capacitor should terminate as close to this pin and the AG1 pin as possible. Do not use for an external supply.", 60 V48 (power) "48-V input to the device. This supply can have a range of 22 V to 57 V. This pin should be decoupled with a 0.1-uF capacitor from V48 to AG1 placed as close to the device as possible.", 61 AG2 (power) "Analog ground 2. This is the analog ground which ties to the substrate and ESD structures of the device. It should be externally tied to the common copper 48-V return plane. AG1 and AG2 must be tied together directly for the (See Datasheet)", 62 PORB (in) "This pin can be used to override the internal POR. When held low, the I2C interface, all the state machines, and registers are held in reset. When all internal and external supplies are within specification, and this pin is (See Datasheet)", 63 MS (in) "The MS pin selects either the auto mode (MS low) or the power management mode, PMM, (MS igh). This pin can be held low for controller-less standalone applications. When MS is low and the OR timing cycle is complete the chip (See Datasheet)", 65 EP "PowerPad"
part B pins: 1 NC "No internal connection.", 2 NC "No internal connection.", 3 NC "No internal connection.", 8 NC "No internal connection.", 9 NC "No internal connection.", 14 NC "No internal connection.", 15 NC "No internal connection.", 16 NC "No internal connection.", 17 NC "No internal connection.", 18 NC "No internal connection.", 19 NC "No internal connection.", 33 NC "No internal connection.", 34 NC "No internal connection.", 35 NC "No internal connection.", 40 NC "No internal connection.", 41 NC "No internal connection.", 46 NC "No internal connection.", 47 NC "No internal connection.", 48 NC "No internal connection.", 49 NC "No internal connection.", 64 NC "No internal connection."